# Altium schematic symbol library MCP1700.Schlib: 1 symbol
Pins are listed as number, name and electrical type; pins without a type are passive.

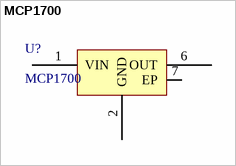
[diagram p0: symbol MCP1700]

## MCP1700
designator U?
pins: 1 VIN, 2 GND, 6 OUT, 7 EP